# EAGLE library part RJ45-MAGJACK-POE (library Poe)
RJ45 Magjack Connector. 1 Port RJ45 Magjack Connector Through Hole 10/100 Base-T, AutoMDIX, Power over Ethernet (PoE).
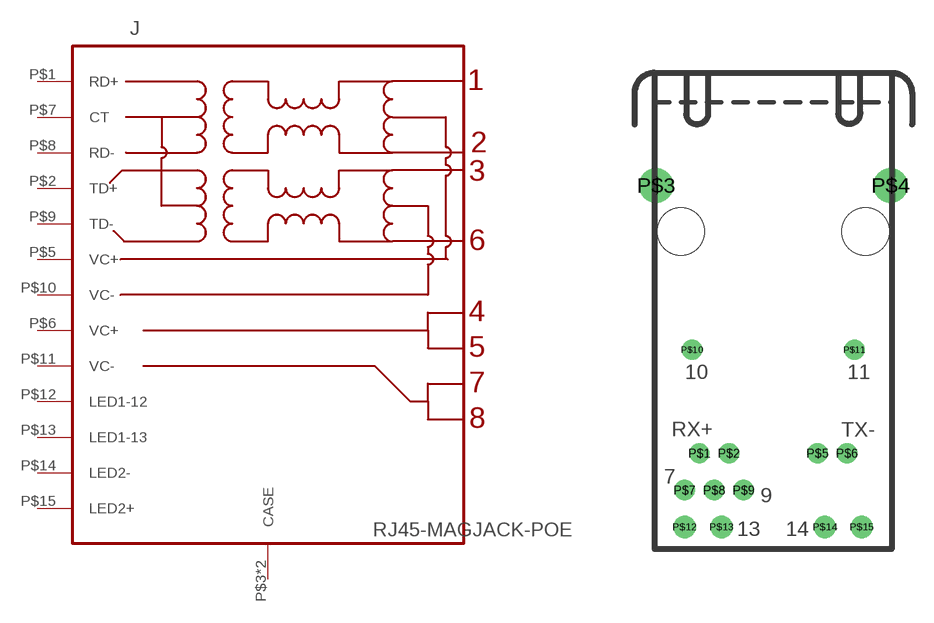
[diagram p7: symbol with the pads of RJ45-THROHOLE; footprint RJ45-THROHOLE]

Designator prefix J

## RJ45-MAGJACK-POE  [RJ45-THROHOLE]
P$1  RD+
P$2  TD+
P$3  CASE
P$4  CASE
P$5  VC+
P$6  VC+
P$7  CT
P$8  RD-
P$9  TD-
P$10  VC-
P$11  VC-
P$12  LED1-12
P$13  LED1-13
P$14  LED2-
P$15  LED2+

## Footprint RJ45-THROHOLE (pad centres in mm)
drill 0.889: P$1 -5.08,-15.24; P$2 -3.048,-15.24; P$5 3.048,-15.24; P$6 5.08,-15.24; P$7 -6.096,-17.78; P$8 -4.064,-17.78; P$9 -2.032,-17.78; P$10 -5.588,-8.128; P$11 5.588,-8.128
drill 1.575: P$3 -8.065,3.175; P$4 8.065,3.175
drill 1.016: P$12 -6.096,-20.32; P$13 -3.556,-20.32; P$14 3.556,-20.32; P$15 6.096,-20.32
hole 3.251 at 6.35,0
hole 3.251 at -6.35,0